# Altium schematic symbol library MCU_Microchip_SAMV.SchLib: 3 symbols
Pins are listed as number, name and electrical type; pins without a type are passive.

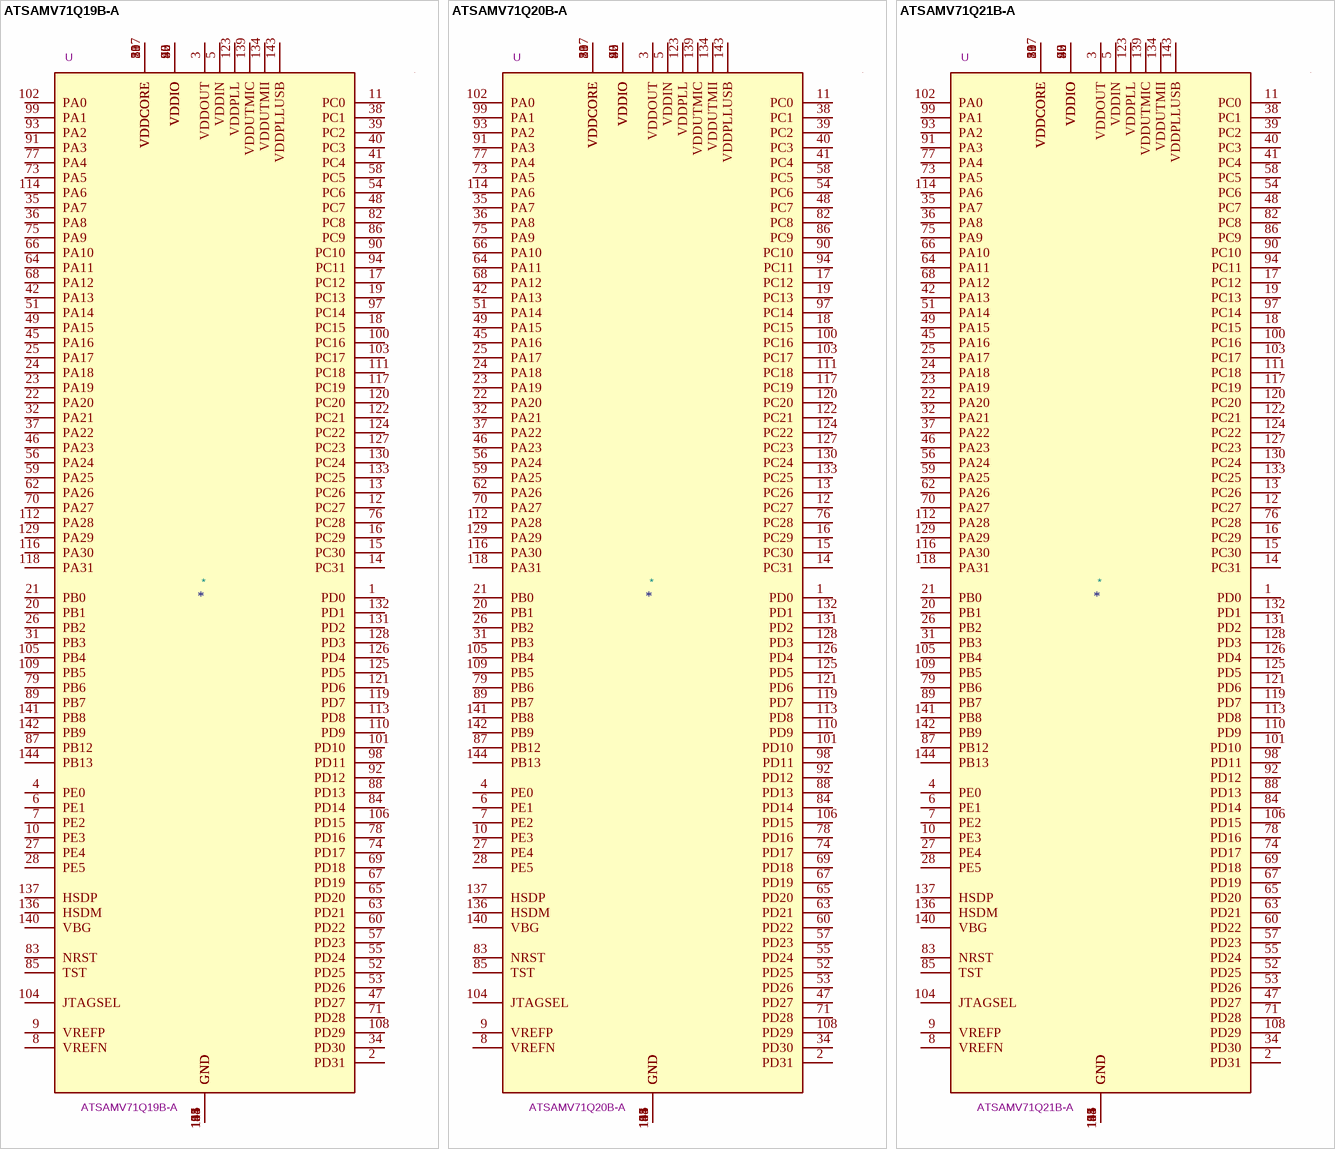
[diagram p0: symbols ATSAMV71Q19B-A to ATSAMV71Q21B-A]

## ATSAMV71Q19B-A
designator *  value ATSAMV71Q19B-A  Reference: U
SAM V71 Microchip SMART ARM Cortex-M7-based MCU, 512K Flash, 256K SRAM, LQFP-144; ki_keywords: 32-bit ARM Cortex-M7 MCU Microcontroller; ki_fp_filters: LQFP*20x20mm*P0.5mm*; Footprint: Package_QFP:LQFP-144_20x20mm_P0.5mm; Datasheet: http://ww1.microchip.com/downloads/en/DeviceDoc/SAM-E70-S70-V70-V71-Family-Data-Sheet-DS60001527D.pdf; Description_: SAM V71 Microchip SMART ARM Cortex-M7-based MCU, 512K Flash, 256K SRAM, LQFP-144
pins: 1 PD0, 2 PD31, 3 VDDOUT, 4 PE0, 5 VDDIN, 6 PE1, 7 PE2, 8 VREFN, 9 VREFP, 10 PE3, 11 PC0, 12 PC27, 13 PC26, 14 PC31, 15 PC30, 16 PC29, 17 PC12, 18 PC15, 19 PC13, 20 PB1, 21 PB0, 22 PA20, 23 PA19, 24 PA18, 25 PA17, 26 PB2, 27 PE4, 28 PE5, 29 VDDCORE, 30 VDDIO, 31 PB3, 32 PA21, 33 VDDCORE, 34 PD30, 35 PA7, 36 PA8, 37 PA22, 38 PC1, 39 PC2, 40 PC3, 41 PC4, 42 PA13, 43 VDDIO, 44 GND, 45 PA16, 46 PA23, 47 PD27, 48 PC7, 49 PA15, 50 VDDCORE, 51 PA14, 52 PD25, 53 PD26, 54 PC6, 55 PD24, 56 PA24, 57 PD23, 58 PC5, 59 PA25, 60 PD22, 61 GND, 62 PA26, 63 PD21, 64 PA11, 65 PD20, 66 PA10, 67 PD19, 68 PA12, 69 PD18, 70 PA27, 71 PD28, 72 VDDIO, 73 PA5, 74 PD17, 75 PA9, 76 PC28, 77 PA4, 78 PD16, 79 PB6, 80 VDDIO, 81 VDDCORE, 82 PC8, 83 NRST, 84 PD14, 85 TST, 86 PC9, 87 PB12, 88 PD13, 89 PB7, 90 PC10, 91 PA3, 92 PD12, 93 PA2, 94 PC11, 95 GND, 96 VDDIO, 97 PC14, 98 PD11, 99 PA1, 100 PC16, 101 PD10, 102 PA0, 103 PC17, 104 JTAGSEL, 105 PB4, 106 PD15, 107 VDDCORE, 108 PD29, 109 PB5, 110 PD9, 111 PC18, 112 PA28, 113 PD8, 114 PA6, 115 GND, 116 PA30, 117 PC19, 118 PA31, 119 PD7, 120 PC20, 121 PD6, 122 PC21, 123 VDDPLL, 124 PC22, 125 PD5, 126 PD4, 127 PC23, 128 PD3, 129 PA29, 130 PC24, 131 PD2, 132 PD1, 133 PC25, 134 VDDUTMII, 135 GND, 136 HSDM, 137 HSDP, 138 GND, 139 VDDUTMIC, 140 VBG, 141 PB8, 142 PB9, 143 VDDPLLUSB, 144 PB13

## ATSAMV71Q20B-A
designator *  value ATSAMV71Q20B-A  Reference: U
SAM V71 Microchip SMART ARM Cortex-M7-based MCU, 1024K Flash, 384K SRAM, LQFP-144; ki_keywords: 32-bit ARM Cortex-M7 MCU Microcontroller; ki_fp_filters: LQFP*20x20mm*P0.5mm*; Footprint: Package_QFP:LQFP-144_20x20mm_P0.5mm; Datasheet: http://ww1.microchip.com/downloads/en/DeviceDoc/SAM-E70-S70-V70-V71-Family-Data-Sheet-DS60001527D.pdf; Description_: SAM V71 Microchip SMART ARM Cortex-M7-based MCU, 1024K Flash, 384K SRAM, LQFP-144
pins: 1 PD0, 2 PD31, 3 VDDOUT, 4 PE0, 5 VDDIN, 6 PE1, 7 PE2, 8 VREFN, 9 VREFP, 10 PE3, 11 PC0, 12 PC27, 13 PC26, 14 PC31, 15 PC30, 16 PC29, 17 PC12, 18 PC15, 19 PC13, 20 PB1, 21 PB0, 22 PA20, 23 PA19, 24 PA18, 25 PA17, 26 PB2, 27 PE4, 28 PE5, 29 VDDCORE, 30 VDDIO, 31 PB3, 32 PA21, 33 VDDCORE, 34 PD30, 35 PA7, 36 PA8, 37 PA22, 38 PC1, 39 PC2, 40 PC3, 41 PC4, 42 PA13, 43 VDDIO, 44 GND, 45 PA16, 46 PA23, 47 PD27, 48 PC7, 49 PA15, 50 VDDCORE, 51 PA14, 52 PD25, 53 PD26, 54 PC6, 55 PD24, 56 PA24, 57 PD23, 58 PC5, 59 PA25, 60 PD22, 61 GND, 62 PA26, 63 PD21, 64 PA11, 65 PD20, 66 PA10, 67 PD19, 68 PA12, 69 PD18, 70 PA27, 71 PD28, 72 VDDIO, 73 PA5, 74 PD17, 75 PA9, 76 PC28, 77 PA4, 78 PD16, 79 PB6, 80 VDDIO, 81 VDDCORE, 82 PC8, 83 NRST, 84 PD14, 85 TST, 86 PC9, 87 PB12, 88 PD13, 89 PB7, 90 PC10, 91 PA3, 92 PD12, 93 PA2, 94 PC11, 95 GND, 96 VDDIO, 97 PC14, 98 PD11, 99 PA1, 100 PC16, 101 PD10, 102 PA0, 103 PC17, 104 JTAGSEL, 105 PB4, 106 PD15, 107 VDDCORE, 108 PD29, 109 PB5, 110 PD9, 111 PC18, 112 PA28, 113 PD8, 114 PA6, 115 GND, 116 PA30, 117 PC19, 118 PA31, 119 PD7, 120 PC20, 121 PD6, 122 PC21, 123 VDDPLL, 124 PC22, 125 PD5, 126 PD4, 127 PC23, 128 PD3, 129 PA29, 130 PC24, 131 PD2, 132 PD1, 133 PC25, 134 VDDUTMII, 135 GND, 136 HSDM, 137 HSDP, 138 GND, 139 VDDUTMIC, 140 VBG, 141 PB8, 142 PB9, 143 VDDPLLUSB, 144 PB13

## ATSAMV71Q21B-A
designator *  value ATSAMV71Q21B-A  Reference: U
SAM V71 Microchip SMART ARM Cortex-M7-based MCU, 2048K Flash, 384K SRAM, LQFP-144; ki_keywords: 32-bit ARM Cortex-M7 MCU Microcontroller; ki_fp_filters: LQFP*20x20mm*P0.5mm*; Footprint: Package_QFP:LQFP-144_20x20mm_P0.5mm; Datasheet: http://ww1.microchip.com/downloads/en/DeviceDoc/SAM-E70-S70-V70-V71-Family-Data-Sheet-DS60001527D.pdf; Description_: SAM V71 Microchip SMART ARM Cortex-M7-based MCU, 2048K Flash, 384K SRAM, LQFP-144
pins: 1 PD0, 2 PD31, 3 VDDOUT, 4 PE0, 5 VDDIN, 6 PE1, 7 PE2, 8 VREFN, 9 VREFP, 10 PE3, 11 PC0, 12 PC27, 13 PC26, 14 PC31, 15 PC30, 16 PC29, 17 PC12, 18 PC15, 19 PC13, 20 PB1, 21 PB0, 22 PA20, 23 PA19, 24 PA18, 25 PA17, 26 PB2, 27 PE4, 28 PE5, 29 VDDCORE, 30 VDDIO, 31 PB3, 32 PA21, 33 VDDCORE, 34 PD30, 35 PA7, 36 PA8, 37 PA22, 38 PC1, 39 PC2, 40 PC3, 41 PC4, 42 PA13, 43 VDDIO, 44 GND, 45 PA16, 46 PA23, 47 PD27, 48 PC7, 49 PA15, 50 VDDCORE, 51 PA14, 52 PD25, 53 PD26, 54 PC6, 55 PD24, 56 PA24, 57 PD23, 58 PC5, 59 PA25, 60 PD22, 61 GND, 62 PA26, 63 PD21, 64 PA11, 65 PD20, 66 PA10, 67 PD19, 68 PA12, 69 PD18, 70 PA27, 71 PD28, 72 VDDIO, 73 PA5, 74 PD17, 75 PA9, 76 PC28, 77 PA4, 78 PD16, 79 PB6, 80 VDDIO, 81 VDDCORE, 82 PC8, 83 NRST, 84 PD14, 85 TST, 86 PC9, 87 PB12, 88 PD13, 89 PB7, 90 PC10, 91 PA3, 92 PD12, 93 PA2, 94 PC11, 95 GND, 96 VDDIO, 97 PC14, 98 PD11, 99 PA1, 100 PC16, 101 PD10, 102 PA0, 103 PC17, 104 JTAGSEL, 105 PB4, 106 PD15, 107 VDDCORE, 108 PD29, 109 PB5, 110 PD9, 111 PC18, 112 PA28, 113 PD8, 114 PA6, 115 GND, 116 PA30, 117 PC19, 118 PA31, 119 PD7, 120 PC20, 121 PD6, 122 PC21, 123 VDDPLL, 124 PC22, 125 PD5, 126 PD4, 127 PC23, 128 PD3, 129 PA29, 130 PC24, 131 PD2, 132 PD1, 133 PC25, 134 VDDUTMII, 135 GND, 136 HSDM, 137 HSDP, 138 GND, 139 VDDUTMIC, 140 VBG, 141 PB8, 142 PB9, 143 VDDPLLUSB, 144 PB13